# EAGLE library part MA07-1_SHORTPAD (library various)
PIN HEADER
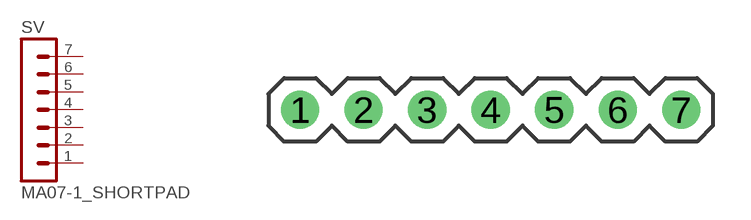
[diagram p6: symbol with the pads of MA07-1_SHORTPAD; footprint MA07-1_SHORTPAD]

Designator prefix SV

## MA07-1_SHORTPAD  [MA07-1_SHORTPAD]
1  1  pas
2  2  pas
3  3  pas
4  4  pas
5  5  pas
6  6  pas
7  7  pas

## Footprint MA07-1_SHORTPAD (pad centres in mm)
drill 1.016: 1 -7.62,0; 2 -5.08,0; 3 -2.54,0; 4 0,0; 5 2.54,0; 6 5.08,0; 7 7.62,0